# EAGLE library part PORT_PAD_SMD_MAIN (library iridia)
Connector pad for soldering side boards on main board of IRIDIA TAM
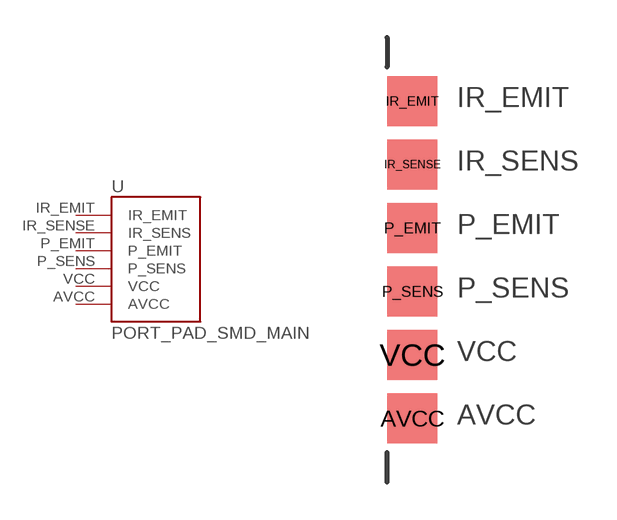
[diagram p2: symbol with the pads of PORT_PAD_SMD_MAIN; footprint PORT_PAD_SMD_MAIN]

Designator prefix -

## PORT_PAD_SMD_MAIN  [PORT_PAD_SMD_MAIN]
AVCC  AVCC
IR_EMIT  IR_EMIT
IR_SENSE  IR_SENS
P_EMIT  P_EMIT
P_SENS  P_SENS
VCC  VCC

## Footprint PORT_PAD_SMD_MAIN (pad centres in mm)
smd 2 x 2: AVCC 0,-6.35; IR_EMIT 0,6.35; IR_SENSE 0,3.81; P_EMIT 0,1.27; P_SENS 0,-1.27; VCC 0,-3.81